# EAGLE library part BTM-180 (library rayson__btm_bluetooth_modul)
The module is a Max.4dBm( Class2 ) module with antenna Bluetooth standard Ver. 2.0 + EDR compliant. Low current consumption : Hold,Sniff,Park,Deep sleep Mode 3.0V or 1.8V operation Support for up to seven slaves : SCO links<3>,ACL links,Piconet<7> Interface: USB,UART&PCM(for voice CODEC) HCI or SPP,HSP/HFP,HID,DUN firmware is available Support for 802.11 Co-Exsitence RoHS compliant Small outline. 25.0 x 14.5 x 2.2 mm
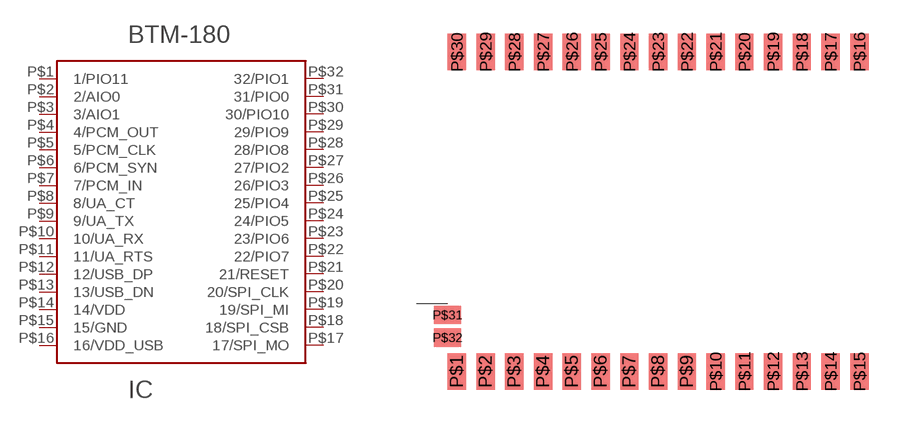
[diagram p8: symbol with the pads of BTM-180; footprint BTM-180]

Designator prefix IC

## BTM-180  [BTM-180]
P$1  1/PIO11
P$2  2/AIO0
P$3  3/AIO1
P$4  4/PCM_OUT  out
P$5  5/PCM_CLK
P$6  6/PCM_SYN  in
P$7  7/PCM_IN  in
P$8  8/UA_CT  in
P$9  9/UA_TX  out
P$10  10/UA_RX  in
P$11  11/UA_RTS  out
P$12  12/USB_DP
P$13  13/USB_DN
P$14  14/VDD  pwr
P$15  15/GND  pwr
P$16  16/VDD_USB  pwr
P$17  17/SPI_MO  in
P$18  18/SPI_CSB  in
P$19  19/SPI_MI  out
P$20  20/SPI_CLK  in
P$21  21/RESET  in
P$22  22/PIO7
P$23  23/PIO6
P$24  24/PIO5
P$25  25/PIO4
P$26  26/PIO3
P$27  27/PIO2
P$28  28/PIO8
P$29  29/PIO9
P$30  30/PIO10
P$31  31/PIO0
P$32  32/PIO1

## Footprint BTM-180 (pad centres in mm)
smd 0.81 x 1.6: P$1 -3.81,-7.06; P$2 -2.54,-7.06; P$3 -1.27,-7.06; P$4 0,-7.06; P$5 1.27,-7.06; P$6 2.54,-7.06; P$7 3.81,-7.06; P$8 5.08,-7.06; P$9 6.35,-7.06; P$10 7.62,-7.06; P$11 8.89,-7.06; P$12 10.16,-7.06; P$13 11.43,-7.06; P$14 12.7,-7.06; P$15 13.97,-7.06; P$16 13.97,7.06; P$17 12.7,7.06; P$18 11.43,7.06; P$19 10.16,7.06; P$20 8.89,7.06; P$21 7.62,7.06; P$22 6.35,7.06; P$23 5.08,7.06; P$24 3.81,7.06; P$25 2.54,7.06; P$26 1.27,7.06; P$27 0,7.06; P$28 -1.27,7.06; P$29 -2.54,7.06; P$30 -3.81,7.06
smd 1.2 x 0.8: P$31 -4.22,-4.56; P$32 -4.22,-5.56